# EAGLE library part FRAMES_VLR_MIDIBOX_FULL (library MBHP_CORE_STM32F4v1.1.2)
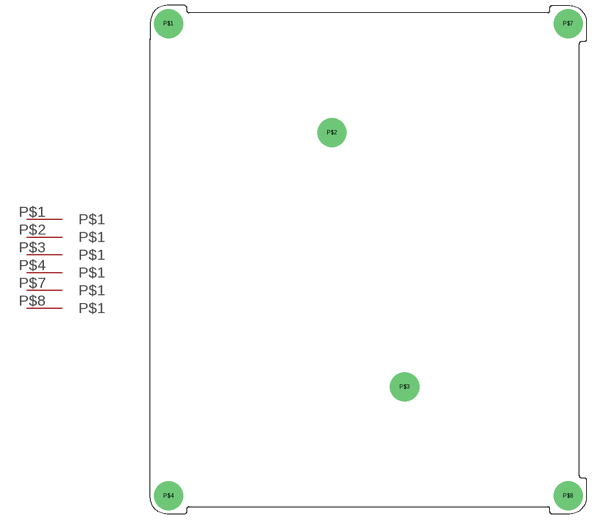
[diagram p4: symbol with the pads of FRAMES_VLR_MIDIBOX14X12; footprint FRAMES_VLR_MIDIBOX14X12]

Designator prefix -; gates G$1=FRAMES_VLR_GND_HOLE G$2=FRAMES_VLR_GND_HOLE G$3=FRAMES_VLR_GND_HOLE G$4=FRAMES_VLR_GND_HOLE G$5=FRAMES_VLR_GND_HOLE G$6=FRAMES_VLR_GND_HOLE

## FRAMES_VLR_MIDIBOX_FULL  [FRAMES_VLR_MIDIBOX14X12]
P$1  G$1:P$1
P$2  G$2:P$1
P$3  G$3:P$1
P$4  G$4:P$1
P$7  G$5:P$1
P$8  G$6:P$1

## Footprint FRAMES_VLR_MIDIBOX14X12 (pad centres in mm)
drill 3.1 pad 8: P$1 5,135; P$2 50,105; P$3 70,35; P$4 5,5; P$7 115,135; P$8 115,5